# Altium schematic symbol library CN 8POS JST ZE SMT.Schlib: 1 symbol
Pins are listed as number, name and electrical type; pins without a type are passive.

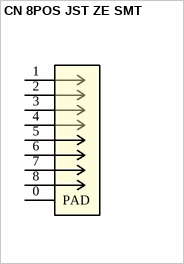
[diagram p0: symbol CN 8POS JST ZE SMT]

## CN 8POS JST ZE SMT
designator J?, comment BM08B-ZESS-TBT(LF)(SN)
CONN HEADER VERT SMD 8POS ZE
footprint JST ZE SMT 8POS (8 POS HDR JST ZE)
pins: 0 PAD, 1, 2, 3, 4, 5, 6, 7, 8